# Altium integrated library AD Operational Amplifier.IntLib: 1114 symbols (part 5 of 13)
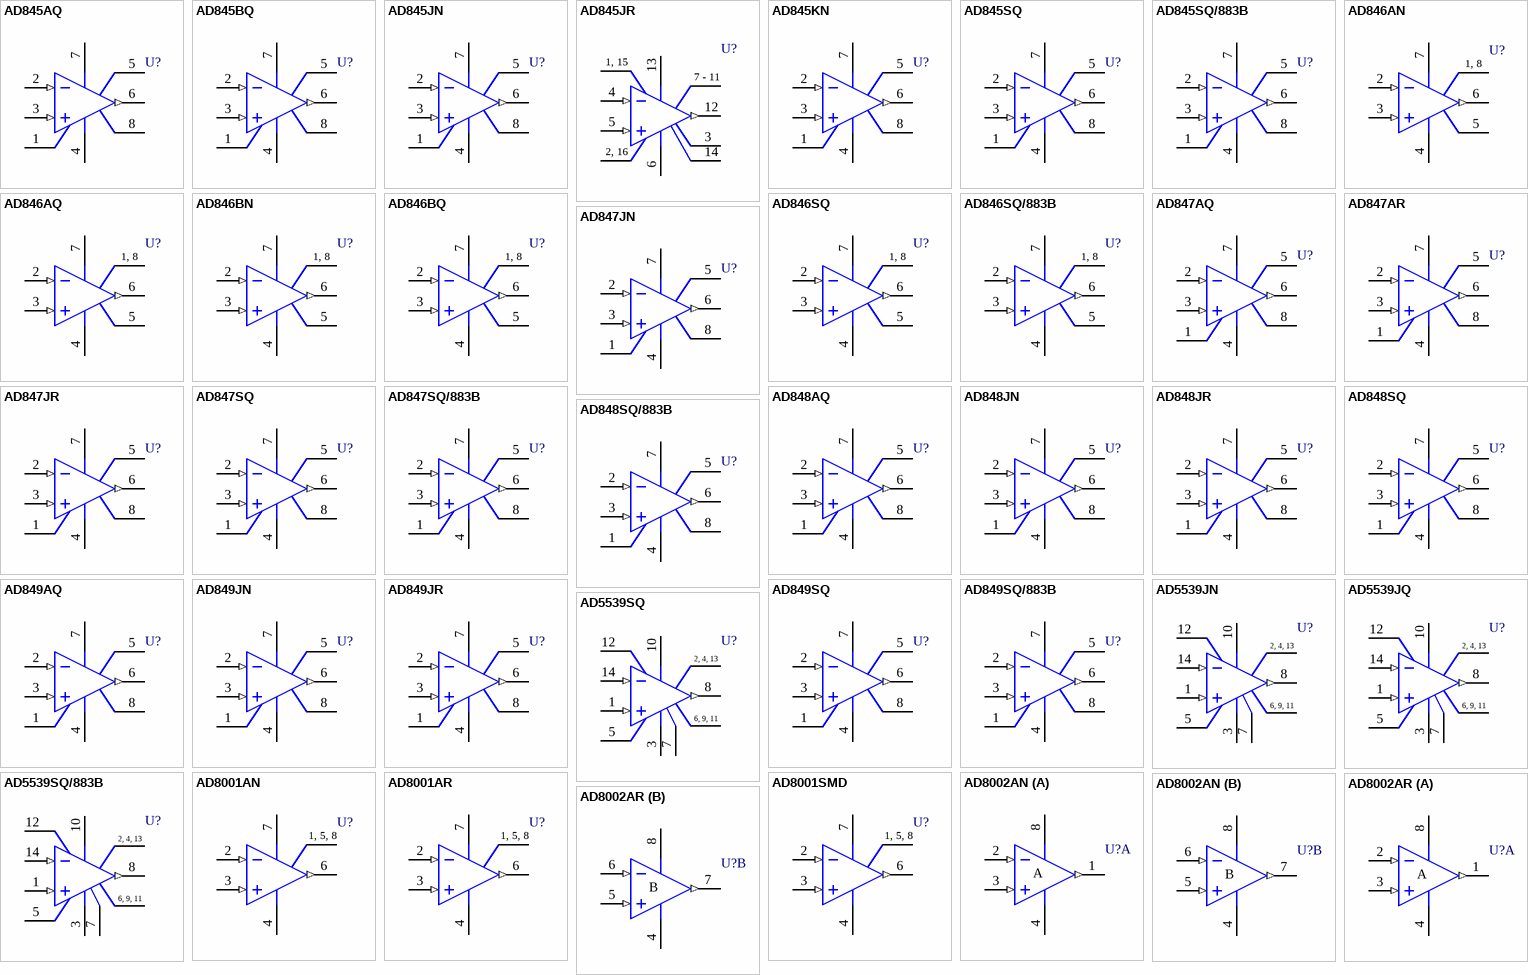
[diagram p50: symbols AD845AQ to AD8002AR]

## AD845JR
designator U?
Precision, 16MHz CBFET Operational Amplifier; Revision 1: 10-Jul-2000: SIM Model Added.; Revision 2: 17-Jul-2002: Re-released for DXP Platform.; Package Information: Latest Revision: revA 1996; Code - JEDEC: MS-013-AA; Code - IPC: SO16W; Published: 8-Jun-2000; Datasheet: Amplifier Reference Manual (1992); Package Reference: R-16; Publisher: Altium Limited
footprint R-16 (Small Outline; 16 Leads; Body Width 7.5 mm; Pitch 1.27 mm)
simulation model AD845J (SUBCKT)
pins: 1 NC, 2 NC, 3 NUL, 4 IN- (in), 5 IN+ (in), 6 V- (power), 7 NC, 8 NC, 9 NC, 10 NC, 11 NC, 12 OUT (out), 13 V+ (power), 14 NUL, 15 NC, 16 NC
text: 1, 15; 7 - 11; 2, 16

## AD845KN
designator U?
Precision, 16MHz CBFET Operational Amplifier; Revision 1: 10-Jul-2000: SIM Model Added.; Revision 2: 17-Jul-2002: Re-released for DXP Platform.; Package Information: Latest Revision: revA; Note: Pin 5 is not connected.; Published: 8-Jun-2000; Datasheet: Latest Revision: REV. D; Package Reference: N-8; Publisher: Altium Limited
footprint N-8 (DIP; 8 Leads; Row Spacing 7.62 mm; Pitch 2.54 mm)
simulation model AD845K (SUBCKT)
pins: 1 NULL1, 2 IN- (in), 3 IN+ (in), 4 V- (power), 5 NC, 6 OUT (out), 7 V+ (power), 8 NULL2

## AD845SQ
designator U?
Precision, 16MHz CBFET Operational Amplifier; Revision 1: 10-Jul-2000: SIM Model Added.; Revision 2: 17-Jul-2002: Re-released for DXP Platform.; Package Information: Latest Revision: 1998; Note: Pin 5 is not connected.; Published: 8-Jun-2000; Datasheet: Latest Revision: REV. D; Package Reference: Q-8; Publisher: Altium Limited
footprint Q-8 (DIP; 8 Leads; Row Spacing 7.62 mm; Pitch 2.54 mm)
simulation model AD845S (SUBCKT)
pins: 1 NULL1, 2 IN- (in), 3 IN+ (in), 4 V- (power), 5 NC, 6 OUT (out), 7 V+ (power), 8 NULL2

## AD845SQ/883B
designator U?
Precision, 16MHz CBFET Operational Amplifier; Revision 1: 10-Jul-2000: SIM Model Added.; Revision 2: 17-Jul-2002: Re-released for DXP Platform.; Package Information: Latest Revision: 1998; Note: Pin 5 is not connected.; Published: 8-Jun-2000; Datasheet: Latest Revision: REV. D; Package Reference: Q-8; Publisher: Altium Limited
footprint Q-8 (DIP; 8 Leads; Row Spacing 7.62 mm; Pitch 2.54 mm)
simulation model AD845S (SUBCKT)
pins: 1 NULL1, 2 IN- (in), 3 IN+ (in), 4 V- (power), 5 NC, 6 OUT (out), 7 V+ (power), 8 NULL2

## AD846AN
designator U?
450 V/uS Precision Current-Feedback Operational Amplifier; Revision 1: 10-Jul-2000: SIM Model Added.; Revision 2: 17-Jul-2002: Re-released for DXP Platform.; Package Information: Latest Revision: revA; Note: Pins 1 and 8 are not connected.; Published: 8-Jun-2000; Datasheet: Latest Revision: REV. B; Package Reference: N-8; Publisher: Altium Limited
footprint N-8 (DIP; 8 Leads; Row Spacing 7.62 mm; Pitch 2.54 mm)
simulation model AD846A (SUBCKT)
pins: 1 NC, 2 IN- (in), 3 IN+ (in), 4 V- (power), 5 CMPEN, 6 OUT (out), 7 V+ (power), 8 NC
text: 1, 8

## AD846AQ
designator U?
450 V/uS Precision Current-Feedback Operational Amplifier; Revision 1: 10-Jul-2000: SIM Model Added.; Revision 2: 17-Jul-2002: Re-released for DXP Platform.; Package Information: Latest Revision: 1998; Note: Pins 1 and 8 are not connected.; Published: 8-Jun-2000; Datasheet: Latest Revision: REV. B; Package Reference: Q-8; Publisher: Altium Limited
footprint Q-8 (DIP; 8 Leads; Row Spacing 7.62 mm; Pitch 2.54 mm)
simulation model AD846A (SUBCKT)
pins: 1 NC, 2 IN- (in), 3 IN+ (in), 4 V- (power), 5 CMPEN, 6 OUT (out), 7 V+ (power), 8 NC
text: 1, 8

## AD846BN
designator U?
450 V/uS Precision Current-Feedback Operational Amplifier; Revision 1: 10-Jul-2000: SIM Model Added.; Revision 2: 17-Jul-2002: Re-released for DXP Platform.; Package Information: Latest Revision: revA; Note: Pins 1 and 8 are not connected.; Published: 8-Jun-2000; Datasheet: Latest Revision: REV. B; Package Reference: N-8; Publisher: Altium Limited
footprint N-8 (DIP; 8 Leads; Row Spacing 7.62 mm; Pitch 2.54 mm)
simulation model AD846B (SUBCKT)
pins: 1 NC, 2 IN- (in), 3 IN+ (in), 4 V- (power), 5 CMPEN, 6 OUT (out), 7 V+ (power), 8 NC
text: 1, 8

## AD846BQ
designator U?
450 V/uS Precision Current-Feedback Operational Amplifier; Revision 1: 10-Jul-2000: SIM Model Added.; Revision 2: 17-Jul-2002: Re-released for DXP Platform.; Package Information: Latest Revision: 1998; Note: Pins 1 and 8 are not connected.; Published: 8-Jun-2000; Datasheet: Latest Revision: REV. B; Package Reference: Q-8; Publisher: Altium Limited
footprint Q-8 (DIP; 8 Leads; Row Spacing 7.62 mm; Pitch 2.54 mm)
simulation model AD846B (SUBCKT)
pins: 1 NC, 2 IN- (in), 3 IN+ (in), 4 V- (power), 5 CMPEN, 6 OUT (out), 7 V+ (power), 8 NC
text: 1, 8

## AD846SQ
designator U?
450 V/uS Precision Current-Feedback Operational Amplifier; Revision 1: 10-Jul-2000: SIM Model Added.; Revision 2: 17-Jul-2002: Re-released for DXP Platform.; Package Information: Latest Revision: 1998; Note: Pins 1 and 8 are not connected.; Published: 8-Jun-2000; Datasheet: Latest Revision: REV. B; Package Reference: Q-8; Publisher: Altium Limited
footprint Q-8 (DIP; 8 Leads; Row Spacing 7.62 mm; Pitch 2.54 mm)
simulation model AD846S (SUBCKT)
pins: 1 NC, 2 IN- (in), 3 IN+ (in), 4 V- (power), 5 CMPEN, 6 OUT (out), 7 V+ (power), 8 NC
text: 1, 8

## AD846SQ/883B
designator U?
450 V/uS Precision Current-Feedback Operational Amplifier; Revision 1: 10-Jul-2000: SIM Model Added.; Revision 2: 17-Jul-2002: Re-released for DXP Platform.; Package Information: Latest Revision: 1998; Note: Pins 1 and 8 are not connected.; Published: 8-Jun-2000; Datasheet: Latest Revision: REV. B; Package Reference: Q-8; Publisher: Altium Limited
footprint Q-8 (DIP; 8 Leads; Row Spacing 7.62 mm; Pitch 2.54 mm)
simulation model AD846S (SUBCKT)
pins: 1 NC, 2 IN- (in), 3 IN+ (in), 4 V- (power), 5 CMPEN, 6 OUT (out), 7 V+ (power), 8 NC
text: 1, 8

## AD847AQ
designator U?
High-Speed, Low-Power Monolithic Operational Amplifier; Revision 1: 10-Jul-2000: SIM Model Added.; Revision 2: 17-Jul-2002: Re-released for DXP Platform.; Package Information: Latest Revision: 1998; Note: Pin 5 is not connected.; Published: 8-Jun-2000; Datasheet: Latest Revision: REV. F; Package Reference: Q-8; Publisher: Altium Limited
footprint Q-8 (DIP; 8 Leads; Row Spacing 7.62 mm; Pitch 2.54 mm)
simulation model AD847A (SUBCKT)
pins: 1 NULL1, 2 IN- (in), 3 IN+ (in), 4 V- (power), 5 NC, 6 OUT (out), 7 V+ (power), 8 NULL2

## AD847AR
designator U?
High-Speed, Low-Power Monolithic Operational Amplifier; Revision 1: 10-Jul-2000: SIM Model Added.; Revision 2: 17-Jul-2002: Re-released for DXP Platform.; Package Information: Latest Revision: 1998; Note: Pin 5 is not connected.; Published: 8-Jun-2000; Datasheet: Latest Revision: REV. F; Package Reference: R-8D; Publisher: Altium Limited
footprint R-8D (Small Outline; 8 Leads; Body Width 3.9 mm; Pitch 1.27 mm)
simulation model AD847A (SUBCKT)
pins: 1 NULL1, 2 IN- (in), 3 IN+ (in), 4 V- (power), 5 NC, 6 OUT (out), 7 V+ (power), 8 NULL2

## AD847JN
designator U?
High-Speed, Low-Power Monolithic Operational Amplifier; Revision 1: 10-Jul-2000: SIM Model Added.; Revision 2: 17-Jul-2002: Re-released for DXP Platform.; Package Information: Latest Revision: revA; Note: Pin 5 is not connected.; Published: 8-Jun-2000; Datasheet: Latest Revision: REV. F; Package Reference: N-8; Publisher: Altium Limited
footprint N-8 (DIP; 8 Leads; Row Spacing 7.62 mm; Pitch 2.54 mm)
simulation model AD847J (SUBCKT)
pins: 1 NULL1, 2 IN- (in), 3 IN+ (in), 4 V- (power), 5 NC, 6 OUT (out), 7 V+ (power), 8 NULL2

## AD847JR
designator U?
High-Speed, Low-Power Monolithic Operational Amplifier; Revision 1: 10-Jul-2000: SIM Model Added.; Revision 2: 17-Jul-2002: Re-released for DXP Platform.; Package Information: Latest Revision: 1998; Note: Pin 5 is not connected.; Published: 8-Jun-2000; Datasheet: Latest Revision: REV. F; Package Reference: R-8D; Publisher: Altium Limited
footprint R-8D (Small Outline; 8 Leads; Body Width 3.9 mm; Pitch 1.27 mm)
simulation model AD847J (SUBCKT)
pins: 1 NULL1, 2 IN- (in), 3 IN+ (in), 4 V- (power), 5 NC, 6 OUT (out), 7 V+ (power), 8 NULL2

## AD847SQ
designator U?
High-Speed, Low-Power Monolithic Operational Amplifier; Revision 1: 10-Jul-2000: SIM Model Added.; Revision 2: 17-Jul-2002: Re-released for DXP Platform.; Package Information: Latest Revision: 1998; Note: Pin 5 is not connected.; Published: 8-Jun-2000; Datasheet: Latest Revision: REV. F; Package Reference: Q-8; Publisher: Altium Limited
footprint Q-8 (DIP; 8 Leads; Row Spacing 7.62 mm; Pitch 2.54 mm)
simulation model AD847S (SUBCKT)
pins: 1 NULL1, 2 IN- (in), 3 IN+ (in), 4 V- (power), 5 NC, 6 OUT (out), 7 V+ (power), 8 NULL2

## AD847SQ/883B
designator U?
High-Speed, Low-Power Monolithic Operational Amplifier; Revision 1: 10-Jul-2000: SIM Model Added.; Revision 2: 17-Jul-2002: Re-released for DXP Platform.; Package Information: Latest Revision: 1998; Note: Pin 5 is not connected.; Published: 8-Jun-2000; Datasheet: Latest Revision: REV. F; Package Reference: Q-8; Publisher: Altium Limited
footprint Q-8 (DIP; 8 Leads; Row Spacing 7.62 mm; Pitch 2.54 mm)
simulation model AD847S (SUBCKT)
pins: 1 NULL1, 2 IN- (in), 3 IN+ (in), 4 V- (power), 5 NC, 6 OUT (out), 7 V+ (power), 8 NULL2

## AD848AQ
designator U?
High-Speed, Low-Power Monolithic Operational Amplifier; Revision 1: 10-Jul-2000: SIM Model Added.; Revision 2: 17-Jul-2002: Re-released for DXP Platform.; Package Information: Latest Revision: 1998; Note: Pin 5 is not connected.; Published: 8-Jun-2000; Datasheet: Latest Revision: REV. B; Package Reference: Q-8; Publisher: Altium Limited
footprint Q-8 (DIP; 8 Leads; Row Spacing 7.62 mm; Pitch 2.54 mm)
simulation model AD848A (SUBCKT)
pins: 1 NULL1, 2 IN- (in), 3 IN+ (in), 4 V- (power), 5 NC, 6 OUT (out), 7 V+ (power), 8 NULL2

## AD848JN
designator U?
High-Speed, Low-Power Monolithic Operational Amplifier; Revision 1: 10-Jul-2000: SIM Model Added.; Revision 2: 17-Jul-2002: Re-released for DXP Platform.; Package Information: Latest Revision: revA; Note: Pin 5 is not connected.; Published: 8-Jun-2000; Datasheet: Latest Revision: REV. B; Package Reference: N-8; Publisher: Altium Limited
footprint N-8 (DIP; 8 Leads; Row Spacing 7.62 mm; Pitch 2.54 mm)
simulation model AD848J (SUBCKT)
pins: 1 NULL1, 2 IN- (in), 3 IN+ (in), 4 V- (power), 5 NC, 6 OUT (out), 7 V+ (power), 8 NULL2

## AD848JR
designator U?
High-Speed, Low-Power Monolithic Operational Amplifier; Revision 1: 10-Jul-2000: SIM Model Added.; Revision 2: 17-Jul-2002: Re-released for DXP Platform.; Package Information: Latest Revision: REV. B; Note: Pin 5 is not connected.; Code - JEDEC: MS-012-AA; Code - IPC: SO8; Published: 8-Jun-2000; Datasheet: Latest Revision: REV. B; Package Reference: R-8; Publisher: Altium Limited
footprint R-8 (Small Outline; 8 Leads; Body Width 3.9 mm; Pitch 1.27 mm)
simulation model AD848J (SUBCKT)
pins: 1 NULL1, 2 IN- (in), 3 IN+ (in), 4 V- (power), 5 NC, 6 OUT (out), 7 V+ (power), 8 NULL2

## AD848SQ
designator U?
High-Speed, Low-Power Monolithic Operational Amplifier; Revision 1: 10-Jul-2000: SIM Model Added.; Revision 2: 17-Jul-2002: Re-released for DXP Platform.; Package Information: Latest Revision: 1998; Note: Pin 5 is not connected.; Published: 8-Jun-2000; Datasheet: Latest Revision: REV. B; Package Reference: Q-8; Publisher: Altium Limited
footprint Q-8 (DIP; 8 Leads; Row Spacing 7.62 mm; Pitch 2.54 mm)
simulation model AD848S (SUBCKT)
pins: 1 NULL1, 2 IN- (in), 3 IN+ (in), 4 V- (power), 5 NC, 6 OUT (out), 7 V+ (power), 8 NULL2

## AD848SQ/883B
designator U?
High-Speed, Low-Power Monolithic Operational Amplifier; Revision 1: 10-Jul-2000: SIM Model Added.; Revision 2: 17-Jul-2002: Re-released for DXP Platform.; Package Information: Latest Revision: 1998; Note: Pin 5 is not connected.; Published: 8-Jun-2000; Datasheet: Latest Revision: REV. B; Package Reference: Q-8; Publisher: Altium Limited
footprint Q-8 (DIP; 8 Leads; Row Spacing 7.62 mm; Pitch 2.54 mm)
simulation model AD848S (SUBCKT)
pins: 1 NULL1, 2 IN- (in), 3 IN+ (in), 4 V- (power), 5 NC, 6 OUT (out), 7 V+ (power), 8 NULL2

## AD849AQ
designator U?
High-Speed, Low-Power Monolithic Operational Amplifier; Package Information: Latest Revision: 1998; Note: Pin 5 is not connected.; Published: 8-Jun-2000; Revision: 17-Jul-2002: Re-released for DXP Platform.; Datasheet: Latest Revision: REV. B; Package Reference: Q-8; Publisher: Altium Limited
footprint Q-8 (DIP; 8 Leads; Row Spacing 7.62 mm; Pitch 2.54 mm)
pins: 1 NULL1, 2 IN- (in), 3 IN+ (in), 4 V- (power), 5 NC, 6 OUT (out), 7 V+ (power), 8 NULL2

## AD849JN
designator U?
High-Speed, Low-Power Monolithic Operational Amplifier; Package Information: Latest Revision: revA; Note: Pin 5 is not connected.; Published: 8-Jun-2000; Revision: 17-Jul-2002: Re-released for DXP Platform.; Datasheet: Latest Revision: REV. B; Package Reference: N-8; Publisher: Altium Limited
footprint N-8 (DIP; 8 Leads; Row Spacing 7.62 mm; Pitch 2.54 mm)
pins: 1 NULL1, 2 IN- (in), 3 IN+ (in), 4 V- (power), 5 NC, 6 OUT (out), 7 V+ (power), 8 NULL2

## AD849JR
designator U?
High-Speed, Low-Power Monolithic Operational Amplifier; Package Information: Latest Revision: REV. B; Note: Pin 5 is not connected.; Code - JEDEC: MS-012-AA; Code - IPC: SO8; Published: 8-Jun-2000; Revision: 17-Jul-2002: Re-released for DXP Platform.; Datasheet: Latest Revision: REV. B; Package Reference: R-8; Publisher: Altium Limited
footprint R-8 (Small Outline; 8 Leads; Body Width 3.9 mm; Pitch 1.27 mm)
pins: 1 NULL1, 2 IN- (in), 3 IN+ (in), 4 V- (power), 5 NC, 6 OUT (out), 7 V+ (power), 8 NULL2

## AD849SQ
designator U?
High-Speed, Low-Power Monolithic Operational Amplifier; Package Information: Latest Revision: 1998; Note: Pin 5 is not connected.; Published: 8-Jun-2000; Revision: 17-Jul-2002: Re-released for DXP Platform.; Datasheet: Latest Revision: REV. B; Package Reference: Q-8; Publisher: Altium Limited
footprint Q-8 (DIP; 8 Leads; Row Spacing 7.62 mm; Pitch 2.54 mm)
pins: 1 NULL1, 2 IN- (in), 3 IN+ (in), 4 V- (power), 5 NC, 6 OUT (out), 7 V+ (power), 8 NULL2

## AD849SQ/883B
designator U?
High-Speed, Low-Power Monolithic Operational Amplifier; Package Information: Latest Revision: 1998; Note: Pin 5 is not connected.; Published: 8-Jun-2000; Revision: 17-Jul-2002: Re-released for DXP Platform.; Datasheet: Latest Revision: REV. B; Package Reference: Q-8; Publisher: Altium Limited
footprint Q-8 (DIP; 8 Leads; Row Spacing 7.62 mm; Pitch 2.54 mm)
pins: 1 NULL1, 2 IN- (in), 3 IN+ (in), 4 V- (power), 5 NC, 6 OUT (out), 7 V+ (power), 8 NULL2

## AD5539JN
designator U?
Ultra-High Frequency Operational Amplifier; Package Information: Latest Revision: revB; Published: 8-Jun-2000; Revision: 17-Jul-2002: Re-released for DXP Platform.; Datasheet: Designer's Reference Manual CD (REV. B); Package Reference: N-14_A; Publisher: Altium Limited
footprint N-14_A (DIP; 14 Leads; Row Spacing 7.62 mm; Pitch 2.54 mm)
pins: 1 IN+ (in), 2 NC, 3 V- (power), 4 NC, 5 TP, 6 NC, 7 GND (power), 8 OUT (out), 9 NC, 10 V+ (power), 11 NC, 12 FREQ CMPEN, 13 NC, 14 IN- (in)
text: 2, 4, 13; 6, 9, 11

## AD5539JQ
designator U?
Ultra-High Frequency Operational Amplifier; Package Information: Latest Revision: revB; Published: 8-Jun-2000; Revision: 17-Jul-2002: Re-released for DXP Platform.; Datasheet: Designer's Reference Manual CD (REV. B); Package Reference: Q-14; Publisher: Altium Limited
footprint Q-14 (DIP; 14 Leads; Row Spacing 7.62 mm; Pitch 2.54 mm)
pins: 1 IN+ (in), 2 NC, 3 V- (power), 4 NC, 5 TP, 6 NC, 7 GND (power), 8 OUT (out), 9 NC, 10 V+ (power), 11 NC, 12 FREQ CMPEN, 13 NC, 14 IN- (in)
text: 2, 4, 13; 6, 9, 11

## AD5539SQ
designator U?
Ultra-High Frequency Operational Amplifier; Package Information: Latest Revision: revB; Published: 8-Jun-2000; Revision: 17-Jul-2002: Re-released for DXP Platform.; Datasheet: Designer's Reference Manual CD (REV. B); Package Reference: Q-14; Publisher: Altium Limited
footprint Q-14 (DIP; 14 Leads; Row Spacing 7.62 mm; Pitch 2.54 mm)
pins: 1 IN+ (in), 2 NC, 3 V- (power), 4 NC, 5 TP, 6 NC, 7 GND (power), 8 OUT (out), 9 NC, 10 V+ (power), 11 NC, 12 FREQ CMPEN, 13 NC, 14 IN- (in)
text: 2, 4, 13; 6, 9, 11

## AD5539SQ/883B
designator U?
Ultra-High Frequency Operational Amplifier; Package Information: Latest Revision: revB; Published: 8-Jun-2000; Revision: 17-Jul-2002: Re-released for DXP Platform.; Datasheet: Designer's Reference Manual CD (REV. B); Package Reference: Q-14; Publisher: Altium Limited
footprint Q-14 (DIP; 14 Leads; Row Spacing 7.62 mm; Pitch 2.54 mm)
pins: 1 IN+ (in), 2 NC, 3 V- (power), 4 NC, 5 TP, 6 NC, 7 GND (power), 8 OUT (out), 9 NC, 10 V+ (power), 11 NC, 12 FREQ CMPEN, 13 NC, 14 IN- (in)
text: 2, 4, 13; 6, 9, 11

## AD8001AN
designator U?
800MHz, 50mW Current Feedback Amplifier; Revision 1: 10-Jul-2000: SIM Model Added.; Revision 2: 17-Jul-2002: Re-released for DXP Platform.; Note: Pins 1, 5 and 8 are not connected.; Code - JEDEC: MO-001-AN; Published: 8-Jun-2000; Datasheet: Latest Revision: REV. B; Package Reference: N-8_A; Publisher: Altium Limited
footprint N-8_A (DIP; 8 Leads; Row Spacing 7.62 mm; Pitch 2.54 mm)
simulation model AD8001AN (SUBCKT)
pins: 1 NC, 2 IN- (in), 3 IN+ (in), 4 V- (power), 5 NC, 6 OUT (out), 7 V+ (power), 8 NC
text: 1, 5, 8

## AD8001AR
designator U?
800MHz, 50mW Current Feedback Amplifier; Revision 1: 10-Jul-2000: SIM Model Added.; Revision 2: 17-Jul-2002: Re-released for DXP Platform.; Package Information: Latest Revision: revA; Note: Pins 1, 5 and 8 are not connected.; Code - JEDEC: MS-012-AA; Code - IPC: SO8; Published: 8-Jun-2000; Datasheet: Latest Revision: REV. B; Package Reference: SO-8; Publisher: Altium Limited
footprint SO-8 (Small Outline; 8 Leads; Body Width 3.9 mm; Pitch 1.27 mm)
simulation model AD8001AR (SUBCKT)
pins: 1 NC, 2 IN- (in), 3 IN+ (in), 4 V- (power), 5 NC, 6 OUT (out), 7 V+ (power), 8 NC
text: 1, 5, 8

## AD8001SMD
designator U?
800MHz, 50mW Current Feedback Amplifier; Revision 1: 10-Jul-2000: SIM Model Added.; Revision 2: 17-Jul-2002: Re-released for DXP Platform.; Package Information: Latest Revision: 1998; Note: Pins 1, 5 and 8 are not connected.; Published: 8-Jun-2000; Datasheet: Latest Revision: REV. B; Package Reference: Q-8; Publisher: Altium Limited
footprint Q-8 (DIP; 8 Leads; Row Spacing 7.62 mm; Pitch 2.54 mm)
simulation model AD8001A (SUBCKT)
pins: 1 NC, 2 IN- (in), 3 IN+ (in), 4 V- (power), 5 NC, 6 OUT (out), 7 V+ (power), 8 NC
text: 1, 5, 8

## AD8002AN
designator U?
Dual 600MHz, 50mW Current Feedback Amplifier; Revision 1: 10-Jul-2000: SIM Model Added.; Revision 2: 17-Jul-2002: Re-released for DXP Platform.; Code - JEDEC: MO-001-AN; Published: 8-Jun-2000; Datasheet: Latest Revision: REV. C 1999; Package Reference: N-8_A; Publisher: Altium Limited
footprint N-8_A (DIP; 8 Leads; Row Spacing 7.62 mm; Pitch 2.54 mm)
simulation model AD8002AN (SUBCKT)
pins on every part: 4 V- (power), 8 V+ (power)
part A pins: 1 OUT (out), 2 IN- (in), 3 IN+ (in)
part B pins: 5 IN+ (in), 6 IN- (in), 7 OUT (out)
part A text: A
part B text: B

## AD8002AR
designator U?
Dual 600MHz, 50mW Current Feedback Amplifier; Revision 1: 10-Jul-2000: SIM Model Added.; Revision 2: 17-Jul-2002: Re-released for DXP Platform.; Package Information: Latest Revision: revA; Code - JEDEC: MS-012-AA; Code - IPC: SO8; Published: 8-Jun-2000; Datasheet: Latest Revision: REV. C 1999; Package Reference: SO-8; Publisher: Altium Limited
footprint SO-8 (Small Outline; 8 Leads; Body Width 3.9 mm; Pitch 1.27 mm)
simulation model AD8002AR (SUBCKT)
pins on every part: 4 V- (power), 8 V+ (power)
part A pins: 1 OUT (out), 2 IN- (in), 3 IN+ (in)
part B pins: 5 IN+ (in), 6 IN- (in), 7 OUT (out)
part A text: A
part B text: B

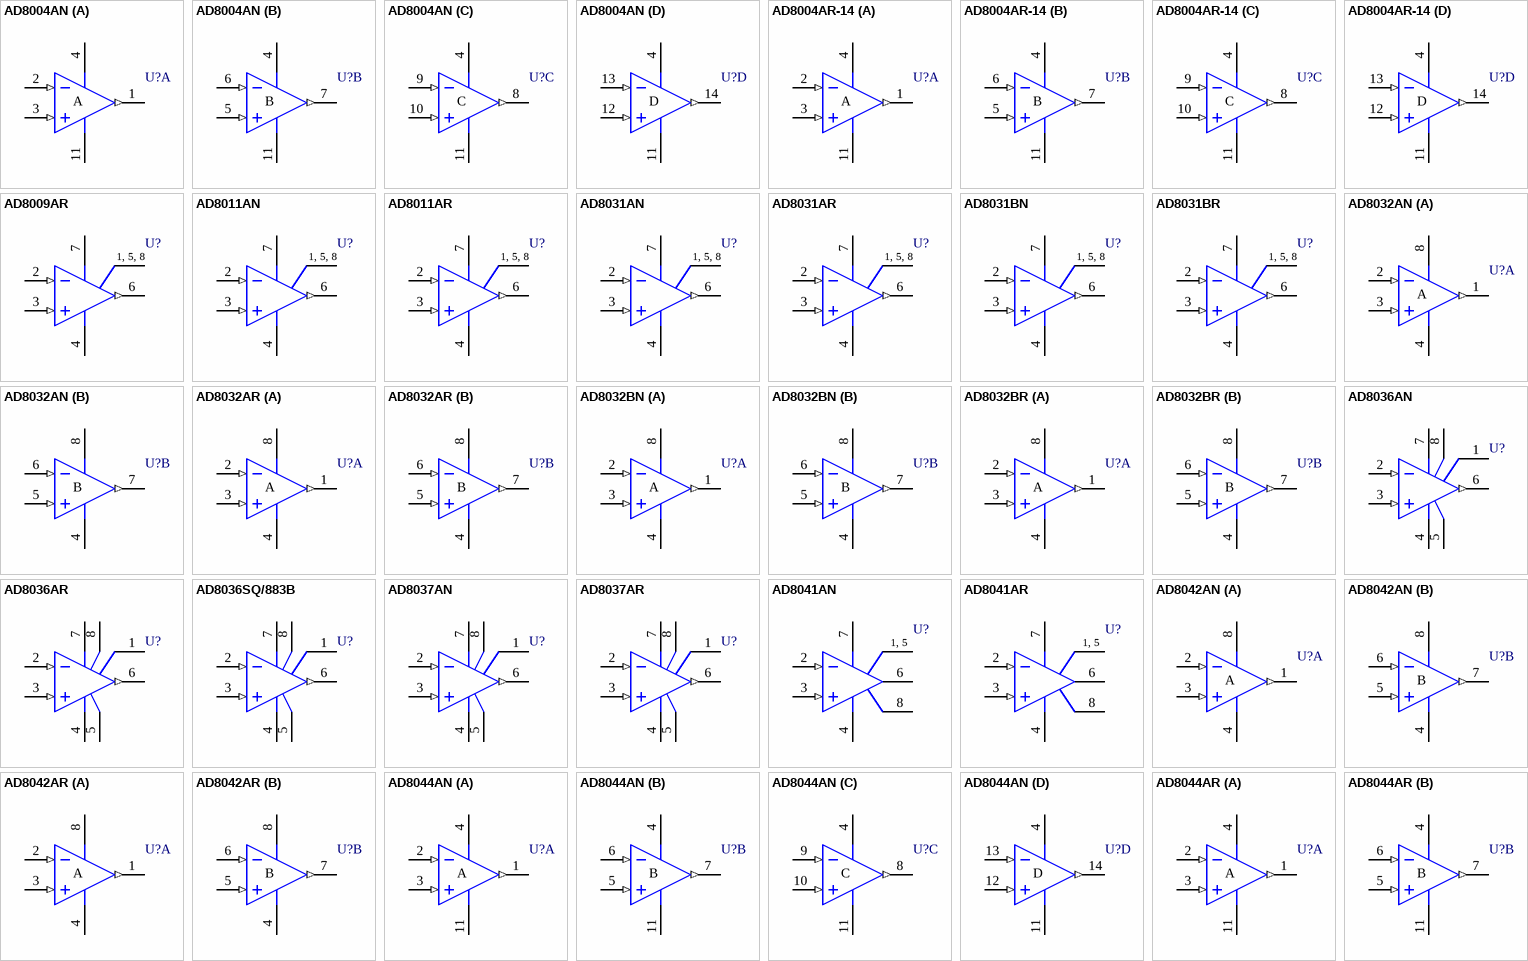
[diagram p14: symbols AD8004AN to AD8044AR]

## AD8004AN
designator U?
Quad 3000 V/uS, 35mW Current Feedback Amplifier; Revision 1: 10-Jul-2000: SIM Model Added.; Revision 2: 17-Jul-2002: Re-released for DXP Platform.; Package Information: Latest Revision: 1999; Published: 8-Jun-2000; Datasheet: Latest Revision: REV. B 1999; Package Reference: N-14; Publisher: Altium Limited
footprint N-14 (DIP; 14 Leads; Row Spacing 7.62 mm; Pitch 2.54 mm)
simulation model AD8004AN (SUBCKT)
pins on every part: 4 V+ (power), 11 V- (power)
part A pins: 1 OUT (out), 2 IN- (in), 3 IN+ (in)
part B pins: 5 IN+ (in), 6 IN- (in), 7 OUT (out)
part C pins: 8 OUT (out), 9 IN- (in), 10 IN+ (in)
part D pins: 12 IN+ (in), 13 IN- (in), 14 OUT (out)
part A text: A
part B text: B
part C text: C
part D text: D

## AD8004AR-14
designator U?
Quad 3000 V/uS, 35mW Current Feedback Amplifier; Revision 1: 10-Jul-2000: SIM Model Added.; Revision 2: 17-Jul-2002: Re-released for DXP Platform.; Package Information: Latest Revision: rev0, 1997; Code - JEDEC: MS-012-AB; Code - IPC: SO14; Published: 8-Jun-2000; Datasheet: Latest Revision: REV. B 1999; Package Reference: R-14; Publisher: Altium Limited
footprint R-14 (Small Outline; 14 Leads; Body Width 3.9 mm; Pitch 1.27 mm)
simulation model AD8004A (SUBCKT)
pins on every part: 4 V+ (power), 11 V- (power)
part A pins: 1 OUT (out), 2 IN- (in), 3 IN+ (in)
part B pins: 5 IN+ (in), 6 IN- (in), 7 OUT (out)
part C pins: 8 OUT (out), 9 IN- (in), 10 IN+ (in)
part D pins: 12 IN+ (in), 13 IN- (in), 14 OUT (out)
part A text: A
part B text: B
part C text: C
part D text: D

## AD8009AR
designator U?
1 GHz, 5,500 V/uS Low Distortion Amplifier; Package Information: Latest Revision: revA; Note: Pin 1, 5 and 8 are not connected; Code - JEDEC: MS-012-AA; Code - IPC: SO8; Published: 8-Jun-2000; Revision: 17-Jul-2002: Re-released for DXP Platform.; Datasheet: Designer's Reference Manual CD (REV. 0 1996); Package Reference: SO-8; Publisher: Altium Limited
footprint SO-8 (Small Outline; 8 Leads; Body Width 3.9 mm; Pitch 1.27 mm)
pins: 1 NC, 2 IN- (in), 3 IN+ (in), 4 V- (power), 5 NC, 6 OUT (out), 7 V+ (power), 8 NC
text: 1, 5, 8

## AD8011AN
designator U?
300MHz, 1 mA Current Feedback Amplifier; Revision 1: 10-Jul-2000: SIM Model Added.; Revision 2: 17-Jul-2002: Re-released for DXP Platform.; Note: Pins 1, 5 and 8 are not connected.; Code - JEDEC: MO-001-AN; Published: 8-Jun-2000; Datasheet: Latest Revision: REV. 0 1995; Package Reference: N-8_A; Publisher: Altium Limited
footprint N-8_A (DIP; 8 Leads; Row Spacing 7.62 mm; Pitch 2.54 mm)
simulation model AD8011AN (SUBCKT)
pins: 1 NC, 2 IN- (in), 3 IN+ (in), 4 V- (power), 5 NC, 6 OUT (out), 7 V+ (power), 8 NC
text: 1, 5, 8

## AD8011AR
designator U?
300MHz, 1 mA Current Feedback Amplifier; Package Information: Latest Revision: revA; Note: Pin 1, 5 and 8 are not connected; Code - JEDEC: MS-012-AA; Code - IPC: SO8; Published: 8-Jun-2000; Revision: 17-Jul-2002: Re-released for DXP Platform.; Datasheet: Latest Revision: REV. 0 1995; Package Reference: SO-8; Publisher: Altium Limited
footprint SO-8 (Small Outline; 8 Leads; Body Width 3.9 mm; Pitch 1.27 mm)
pins: 1 NC, 2 IN- (in), 3 IN+ (in), 4 V- (power), 5 NC, 6 OUT (out), 7 V+ (power), 8 NC
text: 1, 5, 8

## AD8031AN
designator U?
2.7V, 800uA, 80MHz Rail-to-Rail I/O Amplifier; Revision 1: 10-Jul-2000: SIM Model Added.; Revision 2: 17-Jul-2002: Re-released for DXP Platform.; Package Information: Latest Revision: revA; Note: Pins 1, 5 and 8 are not connected.; Published: 8-Jun-2000; Datasheet: Latest Revision: REV. A 1998; Package Reference: N-8; Publisher: Altium Limited
footprint N-8 (DIP; 8 Leads; Row Spacing 7.62 mm; Pitch 2.54 mm)
simulation model AD8031A (SUBCKT)
pins: 1 NC, 2 IN- (in), 3 IN+ (in), 4 V- (power), 5 NC, 6 OUT (out), 7 V+ (power), 8 NC
text: 1, 5, 8

## AD8031AR
designator U?
2.7V, 800uA, 80MHz Rail-to-Rail I/O Amplifier; Revision 1: 10-Jul-2000: SIM Model Added.; Revision 2: 17-Jul-2002: Re-released for DXP Platform.; Package Information: Latest Revision: revA; Note: Pins 1, 5 and 8 are not connected.; Code - JEDEC: MS-012-AA; Code - IPC: SO8; Published: 8-Jun-2000; Datasheet: Latest Revision: REV. A 1998; Package Reference: SO-8; Publisher: Altium Limited
footprint SO-8 (Small Outline; 8 Leads; Body Width 3.9 mm; Pitch 1.27 mm)
simulation model AD8031A (SUBCKT)
pins: 1 NC, 2 IN- (in), 3 IN+ (in), 4 V- (power), 5 NC, 6 OUT (out), 7 V+ (power), 8 NC
text: 1, 5, 8

## AD8031BN
designator U?
2.7V, 800uA, 80MHz Rail-to-Rail I/O Amplifier; Package Information: Latest Revision: revA; Note: Pins 1, 5, and 8 are not connected.; Published: 8-Jun-2000; Revision: 17-Jul-2002: Re-released for DXP Platform.; Datasheet: Latest Revision: REV. A 1998; Package Reference: N-8; Publisher: Altium Limited
footprint N-8 (DIP; 8 Leads; Row Spacing 7.62 mm; Pitch 2.54 mm)
pins: 1 NC, 2 IN- (in), 3 IN+ (in), 4 V- (power), 5 NC, 6 OUT (out), 7 V+ (power), 8 NC
text: 1, 5, 8

## AD8031BR
designator U?
2.7V, 800uA, 80MHz Rail-to-Rail I/O Amplifier; Package Information: Latest Revision: revA; Note: Pins 1, 5, and 8 are not connected.; Code - JEDEC: MS-012-AA; Code - IPC: SO8; Published: 8-Jun-2000; Revision: 17-Jul-2002: Re-released for DXP Platform.; Datasheet: Latest Revision: REV. A 1998; Package Reference: SO-8; Publisher: Altium Limited
footprint SO-8 (Small Outline; 8 Leads; Body Width 3.9 mm; Pitch 1.27 mm)
pins: 1 NC, 2 IN- (in), 3 IN+ (in), 4 V- (power), 5 NC, 6 OUT (out), 7 V+ (power), 8 NC
text: 1, 5, 8

## AD8032AN
designator U?
2.7V, 800uA, 80MHz Rail-to-Rail I/O Amplifier; Package Information: Latest Revision: revA; Published: 8-Jun-2000; Revision: 17-Jul-2002: Re-released for DXP Platform.; Datasheet: Latest Revision: REV. A 1998; Package Reference: N-8; Publisher: Altium Limited
footprint N-8 (DIP; 8 Leads; Row Spacing 7.62 mm; Pitch 2.54 mm)
pins on every part: 4 V- (power), 8 V+ (power)
part A pins: 1 OUT (out), 2 IN- (in), 3 IN+ (in)
part B pins: 5 IN+ (in), 6 IN- (in), 7 OUT (out)
part A text: A
part B text: B

## AD8032AR
designator U?
2.7V, 800uA, 80MHz Rail-to-Rail I/O Amplifier; Package Information: Latest Revision: revA; Code - JEDEC: MS-012-AA; Code - IPC: SO8; Published: 8-Jun-2000; Revision: 17-Jul-2002: Re-released for DXP Platform.; Datasheet: Latest Revision: REV. A 1998; Package Reference: SO-8; Publisher: Altium Limited
footprint SO-8 (Small Outline; 8 Leads; Body Width 3.9 mm; Pitch 1.27 mm)
pins on every part: 4 V- (power), 8 V+ (power)
part A pins: 1 OUT (out), 2 IN- (in), 3 IN+ (in)
part B pins: 5 IN+ (in), 6 IN- (in), 7 OUT (out)
part A text: A
part B text: B

## AD8032BN
designator U?
2.7V, 800uA, 80MHz Rail-to-Rail I/O Amplifier; Package Information: Latest Revision: revA; Published: 8-Jun-2000; Revision: 17-Jul-2002: Re-released for DXP Platform.; Datasheet: Latest Revision: REV. A 1998; Package Reference: N-8; Publisher: Altium Limited
footprint N-8 (DIP; 8 Leads; Row Spacing 7.62 mm; Pitch 2.54 mm)
pins on every part: 4 V- (power), 8 V+ (power)
part A pins: 1 OUT (out), 2 IN- (in), 3 IN+ (in)
part B pins: 5 IN+ (in), 6 IN- (in), 7 OUT (out)
part A text: A
part B text: B

## AD8032BR
designator U?
2.7V, 800uA, 80MHz Rail-to-Rail I/O Amplifier; Package Information: Latest Revision: revA; Code - JEDEC: MS-012-AA; Code - IPC: SO8; Published: 8-Jun-2000; Revision: 17-Jul-2002: Re-released for DXP Platform.; Datasheet: Latest Revision: REV. A 1998; Package Reference: SO-8; Publisher: Altium Limited
footprint SO-8 (Small Outline; 8 Leads; Body Width 3.9 mm; Pitch 1.27 mm)
pins on every part: 4 V- (power), 8 V+ (power)
part A pins: 1 OUT (out), 2 IN- (in), 3 IN+ (in)
part B pins: 5 IN+ (in), 6 IN- (in), 7 OUT (out)
part A text: A
part B text: B

## AD8036AN
designator U?
Low Distortion, Wide-Bandwidth Voltage Feedback Clamp Amp; Revision 1: 10-Jul-2000: SIM Model Added.; Revision 2: 17-Jul-2002: Re-released for DXP Platform.; Note: Pin 1 is not connected.; Code - JEDEC: MO-001-AN; Published: 8-Jun-2000; Datasheet: Latest Revision: REV. 0 1994; Package Reference: N-8_A; Publisher: Altium Limited
footprint N-8_A (DIP; 8 Leads; Row Spacing 7.62 mm; Pitch 2.54 mm)
simulation model AD8036AN (SUBCKT)
pins: 1 NC, 2 IN- (in), 3 IN+ (in), 4 V- (power), 5 V- (power), 6 OUT (out), 7 V+ (power), 8 V+ (power)

## AD8036AR
designator U?
Low Distortion, Wide-Bandwidth Voltage Feedback Clamp Amp; Note: Pin 1 is not connected.; Code - JEDEC: MS-012-AA; Code - IPC: SO8; Published: 8-Jun-2000; Revision: 17-Jul-2002: Re-released for DXP Platform.; Datasheet: Latest Revision: REV. 0 1994; Package Reference: R-8; Publisher: Altium Limited
footprint R-8 (Small Outline; 8 Leads; Body Width 3.9 mm; Pitch 1.27 mm)
pins: 1 NC, 2 IN- (in), 3 IN+ (in), 4 V- (power), 5 V- (power), 6 OUT (out), 7 V+ (power), 8 V+ (power)

## AD8036SQ/883B
designator U?
Low Distortion, Wide-Bandwidth Voltage Feedback Clamp Amp; Package Information: Latest Revision: 1998; Note: Pin 1 is not connected.; Published: 8-Jun-2000; Revision: 17-Jul-2002: Re-released for DXP Platform.; Datasheet: Latest Revision: REV. 0 1994; Package Reference: Q-8; Publisher: Altium Limited
footprint Q-8 (DIP; 8 Leads; Row Spacing 7.62 mm; Pitch 2.54 mm)
pins: 1 NC, 2 IN- (in), 3 IN+ (in), 4 V- (power), 5 V- (power), 6 OUT (out), 7 V+ (power), 8 V+ (power)

## AD8037AN
designator U?
Low Distortion, Wide-Bandwidth Voltage Feedback Clamp Amp; Note: Pin 1 is not connected.; Code - JEDEC: MO-001-AN; Published: 8-Jun-2000; Revision: 17-Jul-2002: Re-released for DXP Platform.; Datasheet: Latest Revision: REV. 0 1994; Package Reference: N-8_A; Publisher: Altium Limited
footprint N-8_A (DIP; 8 Leads; Row Spacing 7.62 mm; Pitch 2.54 mm)
pins: 1 NC, 2 IN- (in), 3 IN+ (in), 4 V- (power), 5 V- (power), 6 OUT (out), 7 V+ (power), 8 V+ (power)

## AD8037AR
designator U?
Low Distortion, Wide-Bandwidth Voltage Feedback Clamp Amp; Note: Pin 1 is not connected.; Code - JEDEC: MS-012-AA; Code - IPC: SO8; Published: 8-Jun-2000; Revision: 17-Jul-2002: Re-released for DXP Platform.; Datasheet: Latest Revision: REV. 0 1994; Package Reference: R-8; Publisher: Altium Limited
footprint R-8 (Small Outline; 8 Leads; Body Width 3.9 mm; Pitch 1.27 mm)
pins: 1 NC, 2 IN- (in), 3 IN+ (in), 4 V- (power), 5 V- (power), 6 OUT (out), 7 V+ (power), 8 V+ (power)

## AD8041AN
designator U?
160MHz Rail-to-Rail Amplifier with Disable; Revision 1: 24-Aug-2001: SIM Model Removed.; Revision 2: 17-Jul-2002: Re-released for DXP Platform.; Package Information: Latest Revision: revA; Note: Pins 1 and 5 are not connected; Published: 8-Jun-2000; Datasheet: Latest Revision: REV. 0 1995; Package Reference: N-8; Publisher: Altium Limited
footprint N-8 (DIP; 8 Leads; Row Spacing 7.62 mm; Pitch 2.54 mm)
pins: 1 NC, 2 IN- (in), 3 IN+ (in), 4 V- (power), 5 NC, 6 OUT (hiz), 7 V+ (power), 8 ~{DIS}
text: 1, 5

## AD8041AR
designator U?
160MHz Rail-to-Rail Amplifier with Disable; Revision 1: 24-Aug-2001: SIM Model Removed.; Revision 2: 17-Jul-2002: Re-released for DXP Platform.; Package Information: Latest Revision: revA; Note: Pins 1 and 5 are not connected; Code - JEDEC: MS-012-AA; Code - IPC: SO8; Published: 8-Jun-2000; Datasheet: Latest Revision: REV. 0 1995; Package Reference: SO-8; Publisher: Altium Limited
footprint SO-8 (Small Outline; 8 Leads; Body Width 3.9 mm; Pitch 1.27 mm)
pins: 1 NC, 2 IN- (in), 3 IN+ (in), 4 V- (power), 5 NC, 6 OUT (hiz), 7 V+ (power), 8 ~{DIS}
text: 1, 5

## AD8042AN
designator U?
Dual 160MHz Rail-to-Rail Amplifier; Package Information: Latest Revision: revA; Published: 8-Jun-2000; Revision: 17-Jul-2002: Re-released for DXP Platform.; Datasheet: Designer's Reference Manual CD (REV. 0 1995); Package Reference: N-8; Publisher: Altium Limited
footprint N-8 (DIP; 8 Leads; Row Spacing 7.62 mm; Pitch 2.54 mm)
pins on every part: 4 V- (power), 8 V+ (power)
part A pins: 1 OUT (out), 2 IN- (in), 3 IN+ (in)
part B pins: 5 IN+ (in), 6 IN- (in), 7 OUT (out)
part A text: A
part B text: B

## AD8042AR
designator U?
Dual 160MHz Rail-to-Rail Amplifier; Package Information: Latest Revision: revA; Code - JEDEC: MS-012-AA; Code - IPC: SO8; Published: 8-Jun-2000; Revision: 17-Jul-2002: Re-released for DXP Platform.; Datasheet: Designer's Reference Manual CD (REV. 0 1995); Package Reference: SO-8; Publisher: Altium Limited
footprint SO-8 (Small Outline; 8 Leads; Body Width 3.9 mm; Pitch 1.27 mm)
pins on every part: 4 V- (power), 8 V+ (power)
part A pins: 1 OUT (out), 2 IN- (in), 3 IN+ (in)
part B pins: 5 IN+ (in), 6 IN- (in), 7 OUT (out)
part A text: A
part B text: B

## AD8044AN
designator U?
Quad 150MHz Rail-to-Rail Amplifier; Package Information: Latest Revision: 1999; Published: 8-Jun-2000; Revision: 17-Jul-2002: Re-released for DXP Platform.; Datasheet: Designer's Reference Manual CD (REV. 0 1995); Package Reference: N-14; Publisher: Altium Limited
footprint N-14 (DIP; 14 Leads; Row Spacing 7.62 mm; Pitch 2.54 mm)
pins on every part: 4 V+ (power), 11 V- (power)
part A pins: 1 OUT (out), 2 IN- (in), 3 IN+ (in)
part B pins: 5 IN+ (in), 6 IN- (in), 7 OUT (out)
part C pins: 8 OUT (out), 9 IN- (in), 10 IN+ (in)
part D pins: 12 IN+ (in), 13 IN- (in), 14 OUT (out)
part A text: A
part B text: B
part C text: C
part D text: D

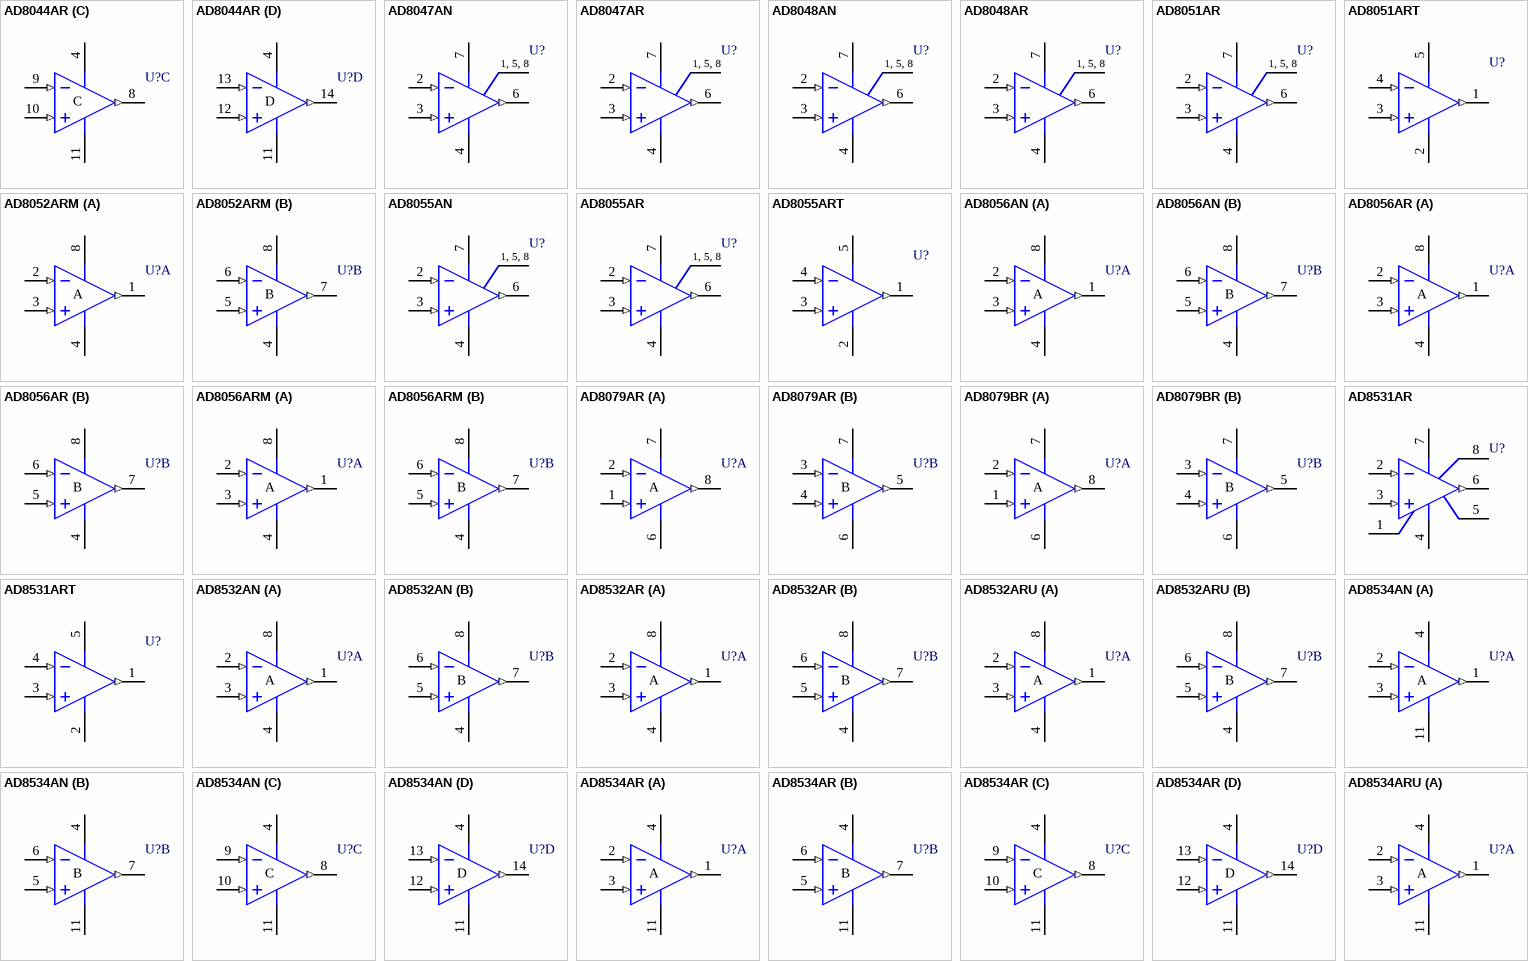
[diagram p15: symbols AD8044AR to AD8534ARU]

## AD8044AR
designator U?
Quad 150MHz Rail-to-Rail Amplifier; Package Information: Latest Revision: rev0, 1997; Code - JEDEC: MS-012-AB; Code - IPC: SO14; Published: 8-Jun-2000; Revision: 17-Jul-2002: Re-released for DXP Platform.; Datasheet: Designer's Reference Manual CD (REV. 0 1995); Package Reference: R-14; Publisher: Altium Limited
footprint R-14 (Small Outline; 14 Leads; Body Width 3.9 mm; Pitch 1.27 mm)
pins on every part: 4 V+ (power), 11 V- (power)
part A pins: 1 OUT (out), 2 IN- (in), 3 IN+ (in)
part B pins: 5 IN+ (in), 6 IN- (in), 7 OUT (out)
part C pins: 8 OUT (out), 9 IN- (in), 10 IN+ (in)
part D pins: 12 IN+ (in), 13 IN- (in), 14 OUT (out)
part A text: A
part B text: B
part C text: C
part D text: D

## AD8047AN
designator U?
250MHz, General Purpose Voltage Feedback Operational Amplifier; Revision 1: 10-Jul-2000: SIM Model Added.; Revision 2: 17-Jul-2002: Re-released for DXP Platform.; Note: Pins 1, 5 and 8 are not connected.; Code - JEDEC: MO-001-AN; Published: 8-Jun-2000; Datasheet: Latest Revision: REV. 0 1995; Package Reference: N-8_A; Publisher: Altium Limited
footprint N-8_A (DIP; 8 Leads; Row Spacing 7.62 mm; Pitch 2.54 mm)
simulation model AD8047 (SUBCKT)
pins: 1 NC, 2 IN- (in), 3 IN+ (in), 4 V- (power), 5 NC, 6 OUT (out), 7 V+ (power), 8 NC
text: 1, 5, 8

## AD8047AR
designator U?
250MHz, General Purpose Voltage Feedback Operational Amplifier; Revision 1: 10-Jul-2000: SIM Model Added.; Revision 2: 17-Jul-2002: Re-released for DXP Platform.; Package Information: Latest Revision: 1998; Note: Pins 1, 5 and 8 are not connected.; Published: 8-Jun-2000; Datasheet: Latest Revision: REV. 0 1995; Package Reference: R-8D; Publisher: Altium Limited
footprint R-8D (Small Outline; 8 Leads; Body Width 3.9 mm; Pitch 1.27 mm)
simulation model AD8047 (SUBCKT)
pins: 1 NC, 2 IN- (in), 3 IN+ (in), 4 V- (power), 5 NC, 6 OUT (out), 7 V+ (power), 8 NC
text: 1, 5, 8

## AD8048AN
designator U?
250MHz, General Purpose Voltage Feedback Operational Amplifier; Note: Pins 1, 5 and 8 are not connected.; Code - JEDEC: MO-001-AN; Published: 8-Jun-2000; Revision: 17-Jul-2002: Re-released for DXP Platform.; Datasheet: Latest Revision: REV. 0 1995; Package Reference: N-8_A; Publisher: Altium Limited
footprint N-8_A (DIP; 8 Leads; Row Spacing 7.62 mm; Pitch 2.54 mm)
pins: 1 NC, 2 IN- (in), 3 IN+ (in), 4 V- (power), 5 NC, 6 OUT (out), 7 V+ (power), 8 NC
text: 1, 5, 8

## AD8048AR
designator U?
250MHz, General Purpose Voltage Feedback Operational Amplifier; Package Information: Latest Revision: 1998; Note: Pins 1, 5 and 8 are not connected.; Published: 8-Jun-2000; Revision: 17-Jul-2002: Re-released for DXP Platform.; Datasheet: Latest Revision: REV. 0 1995; Package Reference: R-8D; Publisher: Altium Limited
footprint R-8D (Small Outline; 8 Leads; Body Width 3.9 mm; Pitch 1.27 mm)
pins: 1 NC, 2 IN- (in), 3 IN+ (in), 4 V- (power), 5 NC, 6 OUT (out), 7 V+ (power), 8 NC
text: 1, 5, 8

## AD8051AR
designator U?
Low Cost, High-Speed Rail-to-Rail Amplifier; Package Information: Latest Revision: revA; Note: Pins 1, 5 and 8 are not connected.; Code - JEDEC: MS-012-AA; Code - IPC: SO8; Published: 8-Jun-2000; Revision: 17-Jul-2002: Re-released for DXP Platform.; Datasheet: Latest Revision: REV. A 1999; Package Reference: SO-8; Publisher: Altium Limited
footprint SO-8 (Small Outline; 8 Leads; Body Width 3.9 mm; Pitch 1.27 mm)
pins: 1 NC, 2 IN- (in), 3 IN+ (in), 4 V- (power), 5 NC, 6 OUT (out), 7 V+ (power), 8 NC
text: 1, 5, 8

## AD8051ART
designator U?
Low Cost, High-Speed Rail-to-Rail Amplifier; Published: 8-Jun-2000; Revision: 17-Jul-2002: Re-released for DXP Platform.; Datasheet: Latest Revision: REV. A 1999; Package Reference: RT-5; Publisher: Altium Limited
footprint RT-5 (SOT-23/SC-74A; 5 Leads; Body 3.1 x 3 mm, inc. leads (LxW max))
pins: 1 OUT (out), 2 V- (power), 3 IN+ (in), 4 IN- (in), 5 V+ (power)

## AD8052ARM
designator U?
Low Cost, High-Speed Rail-to-Rail Amplifier; Package Information: Latest Revision: 1997; Published: 8-Jun-2000; Revision: 17-Jul-2002: Re-released for DXP Platform.; Datasheet: Latest Revision: REV. A 1999; Package Reference: RM-08; Publisher: Altium Limited
footprint RM-08 (Shrink Small Outline; 8 Leads; Body Width 3 mm; Pitch 0.65 mm)
pins on every part: 4 V- (power), 8 V+ (power)
part A pins: 1 OUT (out), 2 IN- (in), 3 IN+ (in)
part B pins: 5 IN+ (in), 6 IN- (in), 7 OUT (out)
part A text: A
part B text: B

## AD8055AN
designator U?
Low Cost, 300MHz Voltage Feedback Amplifier; Revision 1: 10-Jul-2000: SIM Model Added.; Revision 2: 17-Jul-2002: Re-released for DXP Platform.; Note: Pins 1, 5 and 8 are not connected.; Code - JEDEC: MO-001-AN; Published: 8-Jun-2000; Datasheet: Latest Revision: REV. 0 1997; Package Reference: N-8_A; Publisher: Altium Limited
footprint N-8_A (DIP; 8 Leads; Row Spacing 7.62 mm; Pitch 2.54 mm)
simulation model AD8055AN (SUBCKT)
pins: 1 NC, 2 IN- (in), 3 IN+ (in), 4 V- (power), 5 NC, 6 OUT (out), 7 V+ (power), 8 NC
text: 1, 5, 8

## AD8055AR
designator U?
Low Cost, 300MHz Voltage Feedback Amplifier; Package Information: Latest Revision: revA; Note: Pins 1, 5 and 8 are not connected.; Code - JEDEC: MS-012-AA; Code - IPC: SO8; Published: 8-Jun-2000; Revision: 17-Jul-2002: Re-released for DXP Platform.; Datasheet: Latest Revision: REV. 0 1997; Package Reference: SO-8; Publisher: Altium Limited
footprint SO-8 (Small Outline; 8 Leads; Body Width 3.9 mm; Pitch 1.27 mm)
pins: 1 NC, 2 IN- (in), 3 IN+ (in), 4 V- (power), 5 NC, 6 OUT (out), 7 V+ (power), 8 NC
text: 1, 5, 8

## AD8055ART
designator U?
Low Cost, 300MHz Voltage Feedback Amplifier; Published: 8-Jun-2000; Revision: 17-Jul-2002: Re-released for DXP Platform.; Datasheet: Latest Revision: REV. 0 1997; Package Reference: RT-5; Publisher: Altium Limited
footprint RT-5 (SOT-23/SC-74A; 5 Leads; Body 3.1 x 3 mm, inc. leads (LxW max))
pins: 1 OUT (out), 2 V- (power), 3 IN+ (in), 4 IN- (in), 5 V+ (power)

## AD8056AN
designator U?
Low Cost, 300MHz Voltage Feedback Amplifier; Code - JEDEC: MO-001-AN; Published: 8-Jun-2000; Revision: 17-Jul-2002: Re-released for DXP Platform.; Datasheet: Latest Revision: REV. 0 1997; Package Reference: N-8_A; Publisher: Altium Limited
footprint N-8_A (DIP; 8 Leads; Row Spacing 7.62 mm; Pitch 2.54 mm)
pins on every part: 4 V- (power), 8 V+ (power)
part A pins: 1 OUT (out), 2 IN- (in), 3 IN+ (in)
part B pins: 5 IN+ (in), 6 IN- (in), 7 OUT (out)
part A text: A
part B text: B

## AD8056AR
designator U?
Low Cost, 300MHz Voltage Feedback Amplifier; Package Information: Latest Revision: revA; Code - JEDEC: MS-012-AA; Code - IPC: SO8; Published: 8-Jun-2000; Revision: 17-Jul-2002: Re-released for DXP Platform.; Datasheet: Latest Revision: REV. 0 1997; Package Reference: SO-8; Publisher: Altium Limited
footprint SO-8 (Small Outline; 8 Leads; Body Width 3.9 mm; Pitch 1.27 mm)
pins on every part: 4 V- (power), 8 V+ (power)
part A pins: 1 OUT (out), 2 IN- (in), 3 IN+ (in)
part B pins: 5 IN+ (in), 6 IN- (in), 7 OUT (out)
part A text: A
part B text: B

## AD8056ARM
designator U?
Low Cost, 300MHz Voltage Feedback Amplifier; Package Information: Latest Revision: 1997; Published: 8-Jun-2000; Revision: 17-Jul-2002: Re-released for DXP Platform.; Datasheet: Latest Revision: REV. 0 1997; Package Reference: RM-08; Publisher: Altium Limited
footprint RM-08 (Shrink Small Outline; 8 Leads; Body Width 3 mm; Pitch 0.65 mm)
pins on every part: 4 V- (power), 8 V+ (power)
part A pins: 1 OUT (out), 2 IN- (in), 3 IN+ (in)
part B pins: 5 IN+ (in), 6 IN- (in), 7 OUT (out)
part A text: A
part B text: B

## AD8079AR
designator U?
Dual 260MHz Gain = +2.0 & +2.2 Buffer; Revision 1: 22-Jun-2000: Inverting input pin renamed 'IN-' from 'GND'.; Revision 2: 17-Jul-2002: Re-released for DXP Platform.; Package Information: Latest Revision: revA; Code - JEDEC: MS-012-AA; Code - IPC: SO8; Published: 8-Jun-2000; Datasheet: Latest Revision: REV. A 1996; Package Reference: SO-8; Publisher: Altium Limited
footprint SO-8 (Small Outline; 8 Leads; Body Width 3.9 mm; Pitch 1.27 mm)
pins on every part: 6 V- (power), 7 V+ (power)
part A pins: 1 IN+ (in), 2 IN- (in), 8 OUT (out)
part B pins: 3 IN- (in), 4 IN+ (in), 5 OUT (out)
part A text: A
part B text: B

## AD8079BR
designator U?
Dual 260MHz Gain = +2.0 & +2.2 Buffer; Revision 1: 22-Jun-2000: Inverting input pin renamed 'IN-' from 'GND'.; Revision 2: 17-Jul-2002: Re-released for DXP Platform.; Package Information: Latest Revision: revA; Code - JEDEC: MS-012-AA; Code - IPC: SO8; Published: 8-Jun-2000; Datasheet: Latest Revision: REV. A 1996; Package Reference: SO-8; Publisher: Altium Limited
footprint SO-8 (Small Outline; 8 Leads; Body Width 3.9 mm; Pitch 1.27 mm)
pins on every part: 6 V- (power), 7 V+ (power)
part A pins: 1 IN+ (in), 2 IN- (in), 8 OUT (out)
part B pins: 3 IN- (in), 4 IN+ (in), 5 OUT (out)
part A text: A
part B text: B

## AD8531AR
designator U?
Low Cost, 250 mA Output Single-Supply Amplifier; Revision 1: 10-Jul-2000: SIM Model Added.; Revision 2: 17-Jul-2002: Re-released for DXP Platform.; Package Information: Latest Revision: revA; Note: Pin 8 is not connected.; Code - JEDEC: MS-012-AA; Code - IPC: SO8; Published: 8-Jun-2000; Datasheet: Latest Revision: REV. A 1997; Package Reference: SO-8; Publisher: Altium Limited
footprint SO-8 (Small Outline; 8 Leads; Body Width 3.9 mm; Pitch 1.27 mm)
simulation model AD8531 (SUBCKT)
pins: 1 OS NULL, 2 IN- (in), 3 IN+ (in), 4 V- (power), 5 OS NULL, 6 OUT (out), 7 V+ (power), 8 NC

## AD8531ART
designator U?
Low Cost, 250 mA Output Single-Supply Amplifier; Revision 1: 10-Jul-2000: SIM Model Added.; Revision 2: 17-Jul-2002: Re-released for DXP Platform.; Published: 8-Jun-2000; Datasheet: Latest Revision: REV. A 1997; Package Reference: RT-5; Publisher: Altium Limited
footprint RT-5 (SOT-23/SC-74A; 5 Leads; Body 3.1 x 3 mm, inc. leads (LxW max))
simulation model AD8531 (SUBCKT)
pins: 1 OUT (out), 2 V- (power), 3 IN+ (in), 4 IN- (in), 5 V+ (power)

## AD8532AN
designator U?
Low Cost, 250 mA Output Single-Supply Amplifier; Revision 1: 10-Jul-2000: SIM Model Added.; Revision 2: 17-Jul-2002: Re-released for DXP Platform.; Code - JEDEC: MO-001-AN; Published: 8-Jun-2000; Datasheet: Latest Revision: REV. A 1997; Package Reference: N-8_A; Publisher: Altium Limited
footprint N-8_A (DIP; 8 Leads; Row Spacing 7.62 mm; Pitch 2.54 mm)
simulation model AD8532 (SUBCKT)
pins on every part: 4 V- (power), 8 V+ (power)
part A pins: 1 OUT (out), 2 IN- (in), 3 IN+ (in)
part B pins: 5 IN+ (in), 6 IN- (in), 7 OUT (out)
part A text: A
part B text: B

## AD8532AR
designator U?
Low Cost, 250 mA Output Single-Supply Amplifier; Revision 1: 10-Jul-2000: SIM Model Added.; Revision 2: 17-Jul-2002: Re-released for DXP Platform.; Package Information: Latest Revision: revA; Code - JEDEC: MS-012-AA; Code - IPC: SO8; Published: 8-Jun-2000; Datasheet: Latest Revision: REV. A 1997; Package Reference: SO-8; Publisher: Altium Limited
footprint SO-8 (Small Outline; 8 Leads; Body Width 3.9 mm; Pitch 1.27 mm)
simulation model AD8532 (SUBCKT)
pins on every part: 4 V- (power), 8 V+ (power)
part A pins: 1 OUT (out), 2 IN- (in), 3 IN+ (in)
part B pins: 5 IN+ (in), 6 IN- (in), 7 OUT (out)
part A text: A
part B text: B

## AD8532ARU
designator U?
Low Cost, 250 mA Output Single-Supply Amplifier; Revision 1: 10-Jul-2000: SIM Model Added.; Revision 2: 17-Jul-2002: Re-released for DXP Platform.; Package Information: Latest Revision: 1997; Published: 8-Jun-2000; Datasheet: Latest Revision: REV. A 1997; Package Reference: RU-8; Publisher: Altium Limited
footprint RU-8 (Shrink Small Outline; 8 Leads; Body Width 4.4 mm; Pitch 0.65 mm)
simulation model AD8532 (SUBCKT)
pins on every part: 4 V- (power), 8 V+ (power)
part A pins: 1 OUT (out), 2 IN- (in), 3 IN+ (in)
part B pins: 5 IN+ (in), 6 IN- (in), 7 OUT (out)
part A text: A
part B text: B

## AD8534AN
designator U?
Low Cost, 250 mA Output Single-Supply Amplifier; Revision 1: 10-Jul-2000: SIM Model Added.; Revision 2: 17-Jul-2002: Re-released for DXP Platform.; Package Information: Latest Revision: 1999; Published: 8-Jun-2000; Datasheet: Latest Revision: REV. A 1997; Package Reference: N-14; Publisher: Altium Limited
footprint N-14 (DIP; 14 Leads; Row Spacing 7.62 mm; Pitch 2.54 mm)
simulation model AD8534 (SUBCKT)
pins on every part: 4 V+ (power), 11 V- (power)
part A pins: 1 OUT (out), 2 IN- (in), 3 IN+ (in)
part B pins: 5 IN+ (in), 6 IN- (in), 7 OUT (out)
part C pins: 8 OUT (out), 9 IN- (in), 10 IN+ (in)
part D pins: 12 IN+ (in), 13 IN- (in), 14 OUT (out)
part A text: A
part B text: B
part C text: C
part D text: D

## AD8534AR
designator U?
Low Cost, 250 mA Output Single-Supply Amplifier; Revision 1: 10-Jul-2000: SIM Model Added.; Revision 2: 17-Jul-2002: Re-released for DXP Platform.; Package Information: Latest Revision: revA; Code - JEDEC: MS-012-AB; Code - IPC: SO14; Published: 8-Jun-2000; Datasheet: Latest Revision: REV. A 1997; Package Reference: SO-14; Publisher: Altium Limited
footprint SO-14 (Small Outline; 14 Leads; Body Width 3.9 mm; Pitch 1.27 mm)
simulation model AD8534 (SUBCKT)
pins on every part: 4 V+ (power), 11 V- (power)
part A pins: 1 OUT (out), 2 IN- (in), 3 IN+ (in)
part B pins: 5 IN+ (in), 6 IN- (in), 7 OUT (out)
part C pins: 8 OUT (out), 9 IN- (in), 10 IN+ (in)
part D pins: 12 IN+ (in), 13 IN- (in), 14 OUT (out)
part A text: A
part B text: B
part C text: C
part D text: D

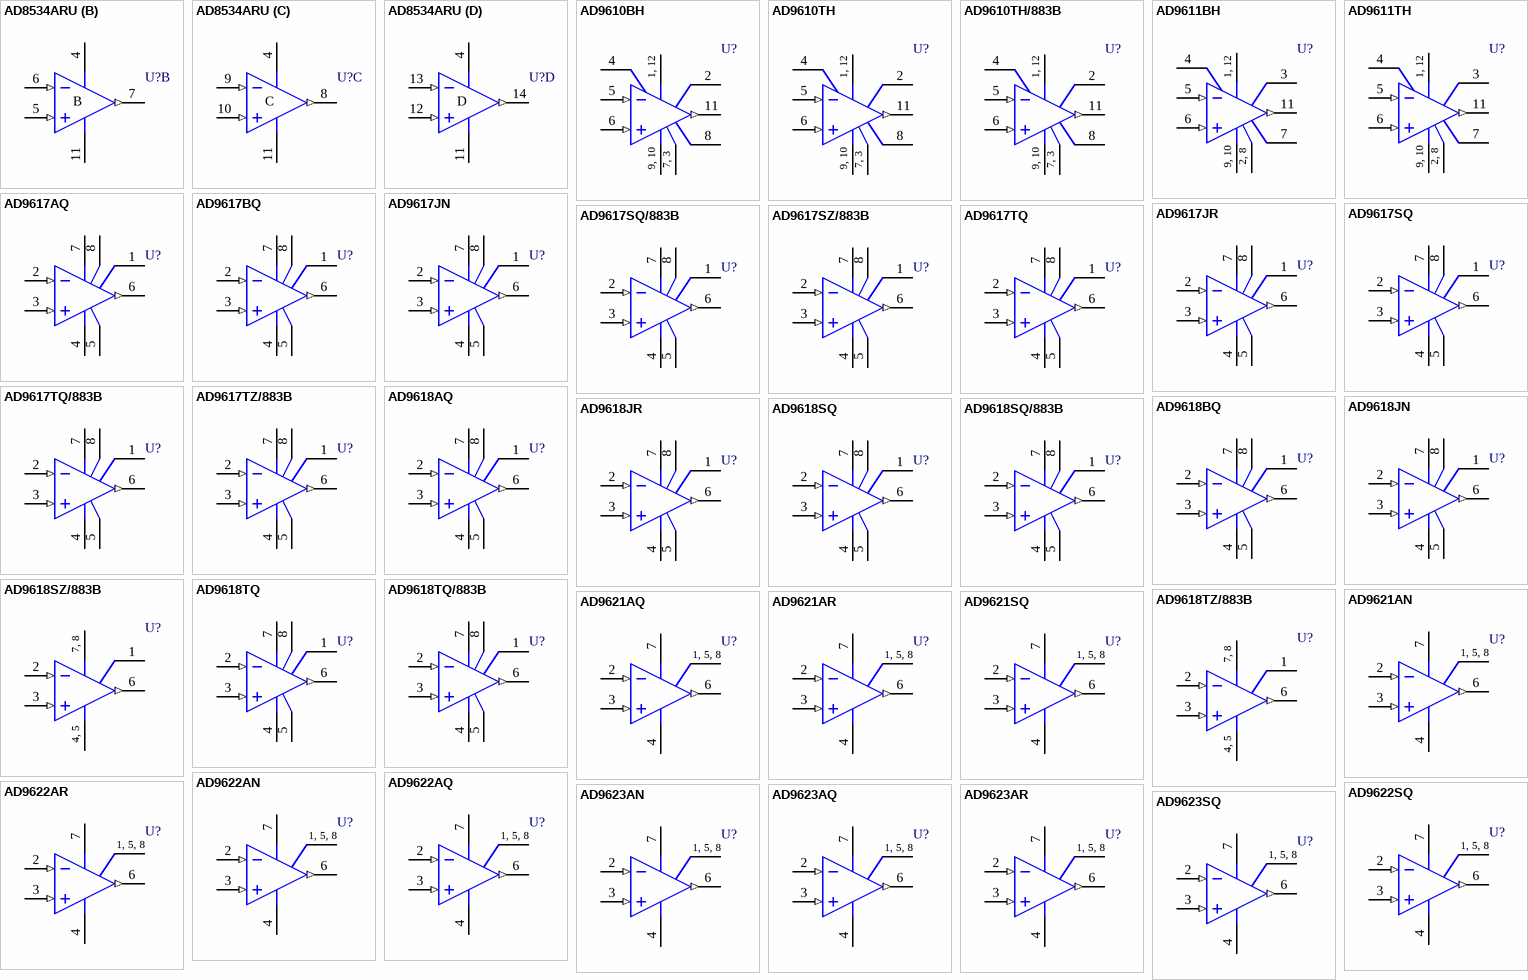
[diagram p16: symbols AD8534ARU to AD9623SQ]

## AD8534ARU
designator U?
Low Cost, 250 mA Output Single-Supply Amplifier; Revision 1: 10-Jul-2000: SIM Model Added.; Revision 2: 17-Jul-2002: Re-released for DXP Platform.; Published: 8-Jun-2000; Datasheet: Latest Revision: REV. A 1997; Package Reference: RU-14; Publisher: Altium Limited
footprint RU-14 (Shrink Small Outline; 14 Leads; Body Width 4.4 mm; Pitch 0.65 mm)
simulation model AD8534 (SUBCKT)
pins on every part: 4 V+ (power), 11 V- (power)
part A pins: 1 OUT (out), 2 IN- (in), 3 IN+ (in)
part B pins: 5 IN+ (in), 6 IN- (in), 7 OUT (out)
part C pins: 8 OUT (out), 9 IN- (in), 10 IN+ (in)
part D pins: 12 IN+ (in), 13 IN- (in), 14 OUT (out)
part A text: A
part B text: B
part C text: C
part D text: D

## AD9610BH
designator U?
Wide-Bandwidth, Fast-Settling Operational Amplifier; Package Information: Latest Revision: revC, 1990; Published: 8-Jun-2000; Revision: 17-Jul-2002: Re-released for DXP Platform.; Datasheet: Latest Revision: 1992; Package Reference: H-12A; Publisher: Altium Limited
footprint H-12A (Can; 12 Leads; 10.16 mm Square Array; Lead Dia. 0.53 mm (max))
pins: 1 V+ (power), 2 BYP, 3 GND (power), 4 RF, 5 IN- (in), 6 IN+ (in), 7 GND (power), 8 BYP, 9 V- (power), 10 V- (power), 11 OUT (out), 12 V+ (power)
text: 1, 12; 9, 10; 7, 3

## AD9610TH
designator U?
Wide-Bandwidth, Fast-Settling Operational Amplifier; Package Information: Latest Revision: revC, 1990; Published: 8-Jun-2000; Revision: 17-Jul-2002: Re-released for DXP Platform.; Datasheet: Latest Revision: 1992; Package Reference: H-12A; Publisher: Altium Limited
footprint H-12A (Can; 12 Leads; 10.16 mm Square Array; Lead Dia. 0.53 mm (max))
pins: 1 V+ (power), 2 BYP, 3 GND (power), 4 RF, 5 IN- (in), 6 IN+ (in), 7 GND (power), 8 BYP, 9 V- (power), 10 V- (power), 11 OUT (out), 12 V+ (power)
text: 1, 12; 9, 10; 7, 3

## AD9610TH/883B
designator U?
Wide-Bandwidth, Fast-Settling Operational Amplifier; Package Information: Latest Revision: revC, 1990; Published: 8-Jun-2000; Revision: 17-Jul-2002: Re-released for DXP Platform.; Datasheet: Latest Revision: 1992; Package Reference: H-12A; Publisher: Altium Limited
footprint H-12A (Can; 12 Leads; 10.16 mm Square Array; Lead Dia. 0.53 mm (max))
pins: 1 V+ (power), 2 BYP, 3 GND (power), 4 RF, 5 IN- (in), 6 IN+ (in), 7 GND (power), 8 BYP, 9 V- (power), 10 V- (power), 11 OUT (out), 12 V+ (power)
text: 1, 12; 9, 10; 7, 3

## AD9611BH
designator U?
Wide-Bandwidth, Fast-Settling Operational Amplifier; Package Information: Latest Revision: revC, 1990; Published: 8-Jun-2000; Revision: 17-Jul-2002: Re-released for DXP Platform.; Datasheet: Latest Revision: 1988; Package Reference: H-12A; Publisher: Altium Limited
footprint H-12A (Can; 12 Leads; 10.16 mm Square Array; Lead Dia. 0.53 mm (max))
pins: 1 V+ (power), 2 GND (power), 3 BIAS, 4 RF, 5 IN- (in), 6 IN+ (in), 7 BIAS, 8 GND (power), 9 V- (power), 10 V- (power), 11 OUT (out), 12 V+ (power)
text: 1, 12; 9, 10; 2, 8

## AD9611TH
designator U?
Wide-Bandwidth, Fast-Settling Operational Amplifier; Package Information: Latest Revision: revC, 1990; Published: 8-Jun-2000; Revision: 17-Jul-2002: Re-released for DXP Platform.; Datasheet: Latest Revision: 1988; Package Reference: H-12A; Publisher: Altium Limited
footprint H-12A (Can; 12 Leads; 10.16 mm Square Array; Lead Dia. 0.53 mm (max))
pins: 1 V+ (power), 2 GND (power), 3 BIAS, 4 RF, 5 IN- (in), 6 IN+ (in), 7 BIAS, 8 GND (power), 9 V- (power), 10 V- (power), 11 OUT (out), 12 V+ (power)
text: 1, 12; 9, 10; 2, 8

## AD9617AQ
designator U?
Low Distortion, Precision, Wide-Bandwidth Operational Amplifier; Revision 1: 10-Jul-2000: SIM Model Added.; Revision 2: 17-Jul-2002: Re-released for DXP Platform.; Package Information: Latest Revision: 1998; Published: 8-Jun-2000; Datasheet: Designer's Reference Manual CD (REV. A 1996); Package Reference: Q-8; Publisher: Altium Limited
footprint Q-8 (DIP; 8 Leads; Row Spacing 7.62 mm; Pitch 2.54 mm)
simulation model AD9617 (SUBCKT)
pins: 1 NC, 2 IN- (in), 3 IN+ (in), 4 V- (power), 5 V- (power), 6 OUT (out), 7 V+ (power), 8 V+ (power)

## AD9617BQ
designator U?
Low Distortion, Precision, Wide-Bandwidth Operational Amplifier; Revision 1: 10-Jul-2000: SIM Model Added.; Revision 2: 17-Jul-2002: Re-released for DXP Platform.; Package Information: Latest Revision: 1998; Published: 8-Jun-2000; Datasheet: Designer's Reference Manual CD (REV. A 1996); Package Reference: Q-8; Publisher: Altium Limited
footprint Q-8 (DIP; 8 Leads; Row Spacing 7.62 mm; Pitch 2.54 mm)
simulation model AD9617 (SUBCKT)
pins: 1 NC, 2 IN- (in), 3 IN+ (in), 4 V- (power), 5 V- (power), 6 OUT (out), 7 V+ (power), 8 V+ (power)

## AD9617JN
designator U?
Low Distortion, Precision, Wide-Bandwidth Operational Amplifier; Revision 1: 10-Jul-2000: SIM Model Added.; Revision 2: 17-Jul-2002: Re-released for DXP Platform.; Code - JEDEC: MO-001-AN; Published: 8-Jun-2000; Datasheet: Designer's Reference Manual CD (REV. A 1996); Package Reference: N-8_A; Publisher: Altium Limited
footprint N-8_A (DIP; 8 Leads; Row Spacing 7.62 mm; Pitch 2.54 mm)
simulation model AD9617 (SUBCKT)
pins: 1 NC, 2 IN- (in), 3 IN+ (in), 4 V- (power), 5 V- (power), 6 OUT (out), 7 V+ (power), 8 V+ (power)